# Altium footprint library misc.PcbLib: 15 footprints
Each footprint in its own frame and in the unit in brackets; x right, y up, seen from the top. Pads: shape width x height; smd on the part's side, far side on the other; paste and mask are expansions set on the pad; w line width, h text height; cw(c..) or ccw(c..) is an arc to the next point about the centre after c.
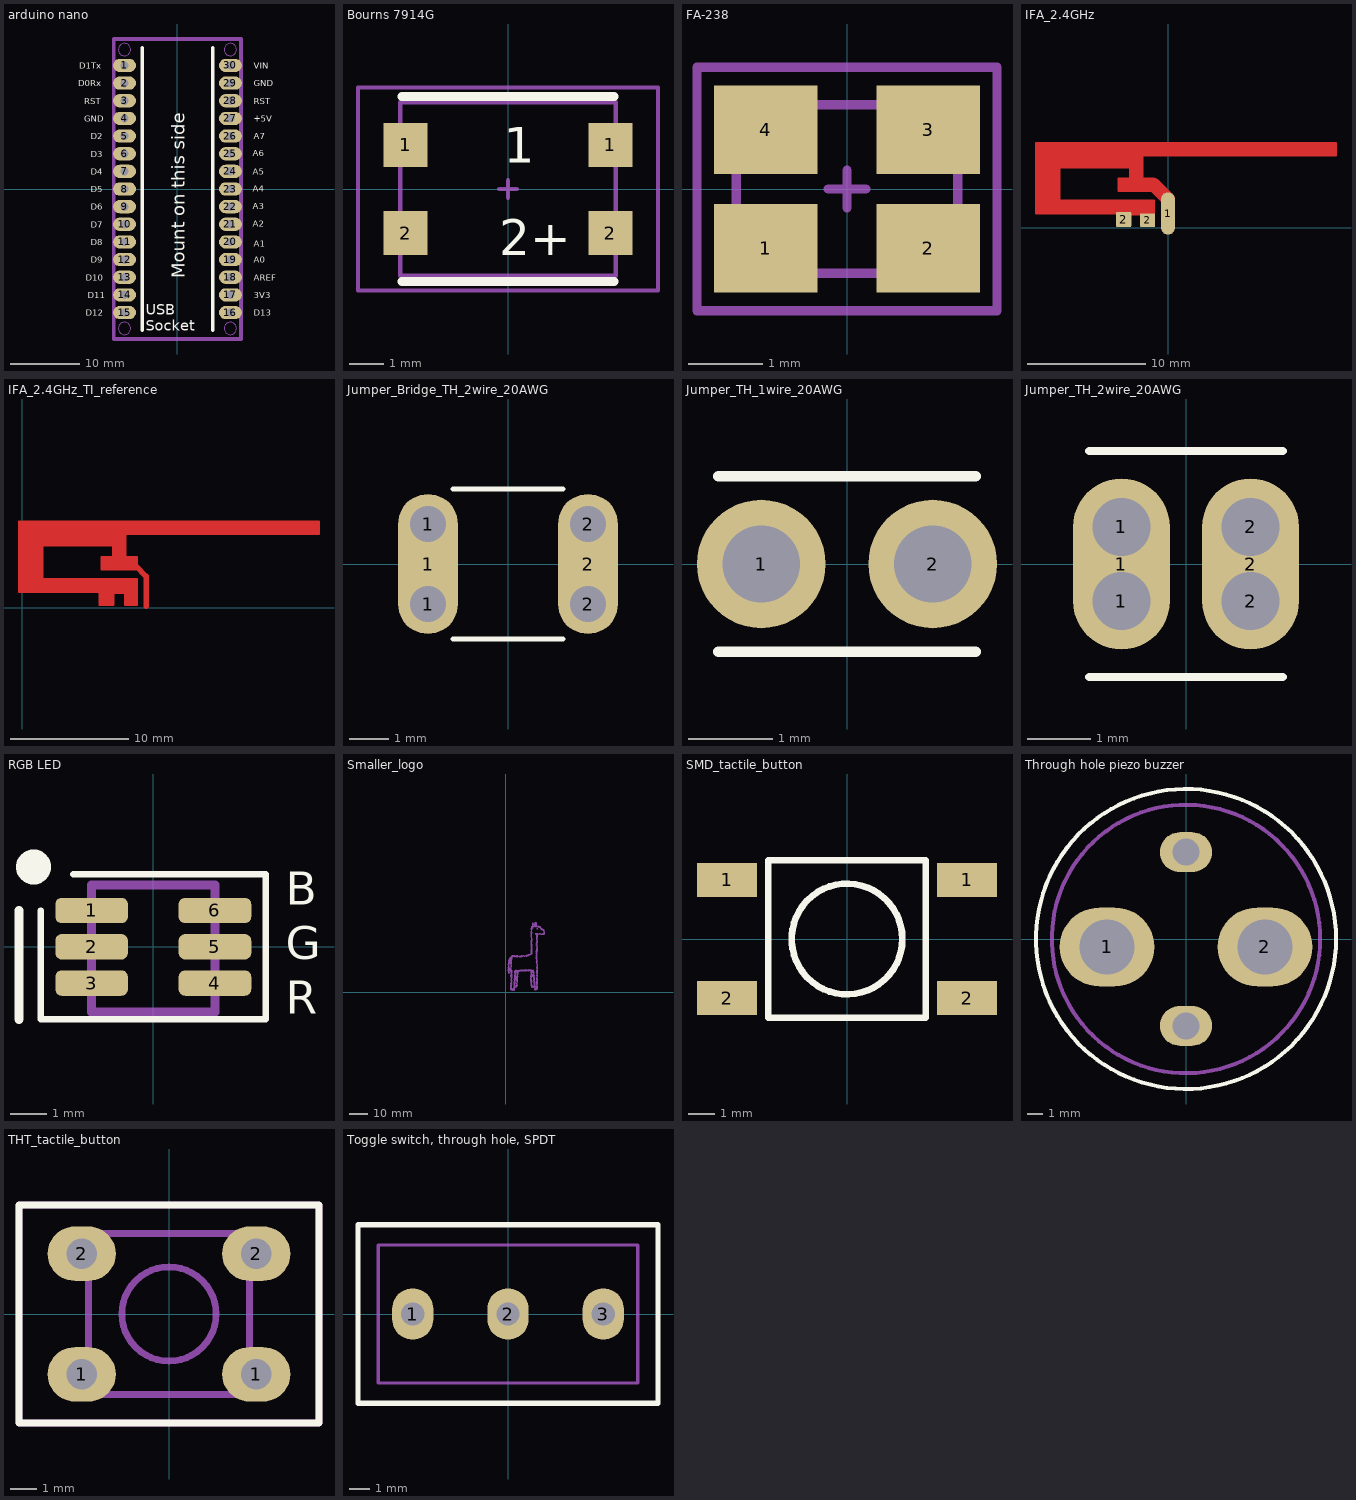
[diagram p0: the footprints below, top view; thin cyan lines are the x and y axes]

## arduino nano [mil]
pads (30):
  oval 130x75 hole 47.24: 1(-300,700) 2(-300,600) 3(-300,500) 4(-300,400) 5(-300,300) 6(-300,200) 7(-300,100) 8(-300,0) 9(-300,-100) 10(-300,-200) 11(-300,-300) 12(-300,-400) 13(-300,-500) 14(-300,-600) 15(-300,-700) 16(300,-700) 17(300,-600) 18(300,-500) 19(300,-400) 20(300,-300) 21(300,-200) 22(300,-100) 23(300,0) 24(300,100) 25(300,200) 26(300,300) 27(300,400) 28(300,500) 29(300,600) 30(300,700)
Top Overlay:
  lines w20: -199.22,-800.52 -199.22,799.48 ; 200.78,-800.52 200.78,799.48
  text "A0" at 431,-419 h36
  text "A7" at 431,281 h36
  text "VIN" at 431,681 h36
  text "GND" at 431,581 h36
  text "RST" at 431,481 h36
  text "+5V" at 431,381 h36
  text "A1" at 431,-326.87 h36
  text "A2" at 427.06,-214.28 h36
  text "A3" at 427.06,-113.49 h36
  text "A4" at 427.06,-16.64 h36
  text "A5" at 427.06,80.21 h36
  text "A6" at 427.06,184.94 h36
  text "AREF" at 431,-519 h36
  text "3V3" at 431,-619 h36
  text "D13" at 431,-719 h36
  text "D12" at -520.97,-719 h36
  text "D11" at -508.97,-619 h36
  text "D10" at -520.97,-519 h36
  text "D9" at -490.98,-419 h36
  text "D8" at -490.98,-319 h36
  text "D7" at -490.98,-219 h36
  text "D6" at -490.98,-119 h36
  text "D5" at -490.98,-19 h36
  text "D4" at -490.98,81 h36
  text "D3" at -490.98,181 h36
  text "D2" at -490.98,281 h36
  text "GND" at -526.97,381 h36
  text "RST" at -526.97,481 h36
  text "D0Rx" at -562.96,581 h36
  text "D1Tx" at -556.96,681 h36
  text "Mount on this side" at 41.12,-505.68 h75
  text "USB / Socket" at -181.1,-803.15 h60
Bottom Overlay:
  lines w20: -200,-800 -200,800 ; 200,-800 200,800
  text "A0" at 466.24,-419 h36
  text "A7" at 466.24,281 h36
  text "GND" at 505.61,581 h36
  text "D13" at 497.94,-714.47 h36
  text "RST" at 505.61,481 h36
  text "+5V" at 505.61,381 h36
  text "A2" at 462.31,-214.28 h36
  text "A1" at 466.24,-326.87 h36
  text "VIN" at 505.61,681 h36
  text "AREF" at 533.17,-519 h36
  text "3V3" at 501.87,-616.05 h36
  text "A4" at 462.31,-16.64 h36
  text "A5" at 462.31,80.21 h36
  text "A6" at 462.31,184.94 h36
  text "A3" at 462.31,-113.49 h36
  text "D4" at -422.01,88.87 h36
  text "D3" at -422.01,188.87 h36
  text "D2" at -422.01,288.87 h36
  text "GND" at -417.72,383.95 h36
  text "RST" at -417.72,482.38 h36
  text "D1Tx" at -423.16,683.17 h36
  text "D0Rx" at -421.1,584.74 h36
  text "D7" at -422.21,-218.41 h36
  text "D8" at -422.21,-312.9 h36
  text "D9" at -422.01,-411.13 h36
  text "D5" at -422.01,-11.13 h36
  text "D6" at -422.01,-111.13 h36
  text "D11" at -419.96,-616.05 h36
  text "D10" at -419.78,-513.68 h36
  text "D12" at -419.78,-714.47 h36
Mechanical 13:
  circle w6: c-300,790 r35
  circle w6: c300,790 r35
  circle w6: c-300,-790 r35
  circle w6: c300,-790 r35
  lines w20: -360,-850 360,-850 360,850 -360,850 -360,-850
  text "USB Cable" at -66.61,-917.64 h120

## Bourns 7914G [mil]
pads (4):
  rect 50x50 smd: 1(-116,50) 1(116,50) 2(-116,-50) 2(116,-50)
Top Overlay:
  lines w10: -120,-105 120,-105 ; -120,105 120,105
  text "2+" at -10,-75 h40
  text "1" at -5,30 h40
Mechanical 13 (Mech13):
  lines w5: -121.98,-98.5 121.99,-98.5 121.99,98.5 -121.98,98.5 -121.98,-98.5
Mechanical 15:
  lines w5: -10,0 10,0 ; 0,-10 0,10 ; -170,-115 -170,115 170,115 170,-115 -170,-115
3D body "7914G-1-000.stp": height 162.45, standoff 0.5, extent -121.98,-98.5 121.99,98.5

## FA-238 [mm]
pads (4):
  rect 1.4x1.2 smd: 1(-1.1,-0.8) 2(1.1,-0.8) 3(1.1,0.8) 4(-1.1,0.8)
Mechanical 13 (Mech13):
  lines w0.127: -1.5,-1.143 1.5,-1.143 1.5,1.143 -1.5,1.143 -1.5,-1.143
Mechanical 15:
  lines w0.127: -0.254,0 0.254,0 ; 0,-0.254 0,0.254 ; -2.032,-1.651 2.032,-1.651 2.032,1.651 -2.032,1.651 -2.032,-1.651
3D body: height 0.7, standoff 0, extent -1.5,-1.143 1.5,1.143

## IFA_2.4GHz [mil]
pads (3):
  oval 46x141 smd paste+0 mask+0: 1(0,47)
  rrect15% 51x51 smd paste+0 mask+0: 2(-148,27)
  rrect15% 50x45 smd paste+0 mask+0: 2(-68,24)
Top Layer:
  region: -440,281 560,281 560,241.22 -86.37,241.22 -86.37,162.48 -47,162.48 -47,123.11 -165.11,123.11 -165.11,162.48 -125.74,162.48 -125.74,201.85 -361.96,201.85 -361.96,89 -47,89 -47,44.37 -86.37,44.37 -125.74,44.37 -171,44.37 -171,46 -172,47 -440,47
  lines w8: -171,46 -419,47 -440,47 -440,281 560,281 560,241.22 -86.37,241.22 -86.37,162.48 -47,162.48 -47,142 ; -125.74,44.37 -86.37,44.37 ; -47,44.37 -47,89 -361.96,89 -361.96,201.85 -125.74,201.85 -125.74,162.48 -165.11,162.48 -165.11,123.11 -47,123.11
  lines w46: -47,142 0,95

## IFA_2.4GHz_TI_reference [mil]
pads (4):
  round 1 smd: 1(380.39,137.87) 1(414,5) 1(414,104.26) 1(414,104.26)
Top Layer:
  region: -10,286 990,286 990,246.22 343.63,246.22 343.63,167.48 383,167.48 383,128.11 264.89,128.11 264.89,167.48 304.26,167.48 304.26,206.85 68.04,206.85 68.04,94 383,94 383,10 343.63,10 343.63,49.37 304.26,49.37 304.26,10 259,10 259,51 258,52 -10,52
  lines w8: -10,52 11,52 259,51 259,10 304.26,10 304.26,49.37 343.63,49.37 343.63,10 383,10 383,94 68.04,94 68.04,206.85 304.26,206.85 304.26,167.48 264.89,167.48 264.89,128.11 383,128.11 383,167.48 343.63,167.48 343.63,246.22 990,246.22 990,286 -10,286 -10,52
  lines w18: 380.39,137.87 414,104.26 414,5

## Julian's_logo [mil] "A giraffe logo"
Top Overlay:
  drawing of 5157 lines, arcs and shapes, not listed

## Jumper_Bridge_TH_2wire_20AWG [mil] "Far apart to allows traces routed between the nets. A pair of holes for soldering in two 20 AWG wires to act as low-impedance jumpers"
pads (6):
  round 60 hole 36: 1(-80,-40) 1(-80,40) 2(80,-40) 2(80,40)
  oval 60x140 smd: 1(-80,0) 2(80,0)
Top Overlay:
  lines w5: -55,-75 55,-75 ; -55,75 55,75

## Jumper_TH_1wire_20AWG [mil] "A pair of holes for soldering in two 20 AWG wires to act as low-impedance jumpers"
pads (2):
  round 60 hole 36: 1(-40,0) 2(40,0)
Top Overlay:
  lines w5: -60,-41 60,-41 ; -60,41 60,41

## Jumper_TH_2wire_20AWG [mil] "A pair of holes for soldering in two 20 AWG wires to act as low-impedance jumpers"
pads (6):
  round 60 hole 36: 1(-40,-23) 1(-40,23) 2(40,-23) 2(40,23)
  oval 60x106 smd: 1(-40,0) 2(40,0)
Top Overlay:
  lines w5: -60,-70 60,-70 ; -60,70 60,70

## RGB LED [mm] "CLX6E-FKC-CH1M1D1BB7C3D3"
pads (6):
  rrect50% 2x0.7 smd: 1(-1.7,1) 2(-1.7,0) 3(-1.7,-1) 4(1.7,-1) 5(1.7,0) 6(1.7,1)
Top Overlay:
  circle w0.508: c-3.3,2.2 r0.229
  lines w0.178: -3.1,1 -3.1,-2 0,-2 3.1,-2 3.1,2 0,2 -2.2,2
  lines w0.254: -3.7,-2 -3.7,1
  text "G" at 3.652,-0.348 h0.91
  text "B" at 3.652,1.152 h0.91
  text "R" at 3.652,-1.848 h0.91
Mechanical 13:
  lines w0.254: -1.7,-1.8 -1.7,1.7 1.7,1.7 1.7,-1.8 -1.7,-1.8

## Smaller_logo [mil]
Bottom Overlay:
  drawing of 5150 lines, arcs and shapes, not listed

## SMD_tactile_button [mil]
pads (4):
  rect 90x51.18 smd: 1(-180,88.58) 1(180,88.58) 2(-180,-88.58) 2(180,-88.58)
Top Overlay:
  circle w10: c0,0 r83.05
  lines w10: -118.11,-118.11 118.11,-118.11 118.11,118.11 -118.11,118.11 -118.11,-118.11
3D body "TL3301AFxxxxG.stp": height 201.57, standoff 0.79, extent -196.85,-118.11 196.85,118.11

## Through hole piezo buzzer [mm] "PKM17EPPH4001"
pads (4):
  oval 6x5 hole 3.5: 1(-5,-0.5) 2(5,-0.5)
  oval 3.302x2.54 hole 1.7: ""(0,-5.5) ""(0,5.5)
Top Overlay:
  circle w0.254: c0,0 r9.5
Mechanical 13:
  circle w0.254: c0,0 r8.5

## THT_tactile_button [mil]
pads (4):
  oval 100x80 hole 45: 1(-128,-88.5) 1(128,-88.5) 2(-128,88.5) 2(128,88.5)
Top Overlay:
  lines w10: -220,-160 220,-160 220,160 -220,160 -220,-160
Mechanical 13:
  circle w10: c0,0 r69.09
  lines w10: 118,118 -118.11,118 -118.11,-118.11 118.11,-118.11 118.11,118 ; -220,-160 -220,160 220,160 220,-160 -220,-160

## Toggle switch, through hole, SPDT [mil] "ANT11SF1CQE"
pads (3):
  oval 80x100 hole 45: 1(-185.04,0) 2(0,0) 3(185.04,0)
Top Overlay:
  lines w10: -291.34,-173.23 291.34,-173.23 291.34,173.23 -291.34,173.23 -291.34,-173.23
Mechanical 13:
  lines w6: -251.97,-133.86 -251.97,133.86 251.97,133.86 251.97,-133.86 -251.97,-133.86